# Altium footprint library PcbLib1.PcbLib: 3 footprints
Each footprint in its own frame and in the unit in brackets; x right, y up, seen from the top. Pads: shape width x height; smd on the part's side, far side on the other; paste and mask are expansions set on the pad; w line width, h text height; cw(c..) or ccw(c..) is an arc to the next point about the centre after c.
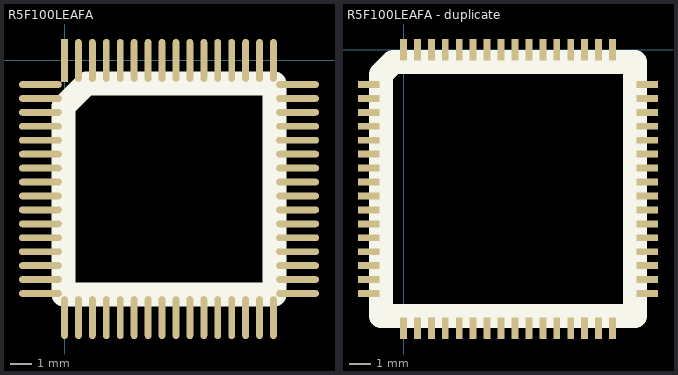
[diagram p0: the footprints below, top view; thin cyan lines are the x and y axes]

## PCBComponent_1 [mm]

## R5F100LEAFA [mm]
pads (64):
  rect 0.32x2 smd: 1(0,0)
  oval 0.32x2 smd: 2(0.65,0) 3(1.3,0) 4(1.95,0) 5(2.6,0) 6(3.25,0) 7(3.9,0) 8(4.55,0) 9(5.2,0) 10(5.85,0) 11(6.5,0) 12(7.15,0) 13(7.8,0) 14(8.45,0) 15(9.1,0) 16(9.75,0) 33(9.75,-12) 34(9.1,-12) 35(8.45,-12) 36(7.8,-12) 37(7.15,-12) 38(6.5,-12) 39(5.85,-12) 40(5.2,-12) 41(4.55,-12) 42(3.9,-12) 43(3.25,-12) 44(2.6,-12) 45(1.95,-12) 46(1.3,-12) 47(0.65,-12) 48(0,-12)
  oval 2x0.32 smd: 17(10.875,-1.125) 18(10.875,-1.775) 19(10.875,-2.425) 20(10.875,-3.075) 21(10.875,-3.725) 22(10.875,-4.375) 23(10.875,-5.025) 24(10.875,-5.675) 25(10.875,-6.325) 26(10.875,-6.975) 27(10.875,-7.625) 28(10.875,-8.275) 29(10.875,-8.925) 30(10.875,-9.575) 31(10.875,-10.225) 32(10.875,-10.875) 49(-1.125,-10.875) 50(-1.125,-10.225) 51(-1.125,-9.575) 52(-1.125,-8.925) 53(-1.125,-8.275) 54(-1.125,-7.625) 55(-1.125,-6.975) 56(-1.125,-6.325) 57(-1.125,-5.675) 58(-1.125,-5.025) 59(-1.125,-4.375) 60(-1.125,-3.725) 61(-1.125,-3.075) 62(-1.125,-2.425) 63(-1.125,-1.775) 64(-1.125,-1.125)
Top Overlay:
  lines w1.125: -0.052,-10.928 -0.052,-2.145 1.02,-1.072 9.803,-1.072 9.803,-10.928 -0.052,-10.928

## R5F100LEAFA - duplicate [mm]
pads (64):
  rect 0.32x1 smd: 1(0,0) 2(0.65,0) 3(1.3,0) 4(1.95,0) 5(2.6,0) 6(3.25,0) 7(3.9,0) 8(4.55,0) 9(5.2,0) 10(5.85,0) 11(6.5,0) 12(7.15,0) 13(7.8,0) 14(8.45,0) 15(9.1,0) 16(9.75,0) 33(9.75,-13) 34(9.1,-13) 35(8.45,-13) 36(7.8,-13) 37(7.15,-13) 38(6.5,-13) 39(5.85,-13) 40(5.2,-13) 41(4.55,-13) 42(3.9,-13) 43(3.25,-13) 44(2.6,-13) 45(1.95,-13) 46(1.3,-13) 47(0.65,-13) 48(0,-13)
  rect 1x0.32 smd: 17(11.375,-1.625) 18(11.375,-2.275) 19(11.375,-2.925) 20(11.375,-3.575) 21(11.375,-4.225) 22(11.375,-4.875) 23(11.375,-5.525) 24(11.375,-6.175) 25(11.375,-6.825) 26(11.375,-7.475) 27(11.375,-8.125) 28(11.375,-8.775) 29(11.375,-9.425) 30(11.375,-10.075) 31(11.375,-10.725) 32(11.375,-11.375) 49(-1.625,-11.375) 50(-1.625,-10.725) 51(-1.625,-10.075) 52(-1.625,-9.425) 53(-1.625,-8.775) 54(-1.625,-8.125) 55(-1.625,-7.475) 56(-1.625,-6.825) 57(-1.625,-6.175) 58(-1.625,-5.525) 59(-1.625,-4.875) 60(-1.625,-4.225) 61(-1.625,-3.575) 62(-1.625,-2.925) 63(-1.625,-2.275) 64(-1.625,-1.625)
Top Overlay:
  lines w1.125: -1.052,-12.428 -1.052,-1.145 -0.48,-0.573 10.803,-0.573 10.803,-12.428 -1.052,-12.428